# EAGLE library part CN1J8TTE471J (library C3-KOA)
8 position 470 Ohm 0.8mm pitch SMT resistor array
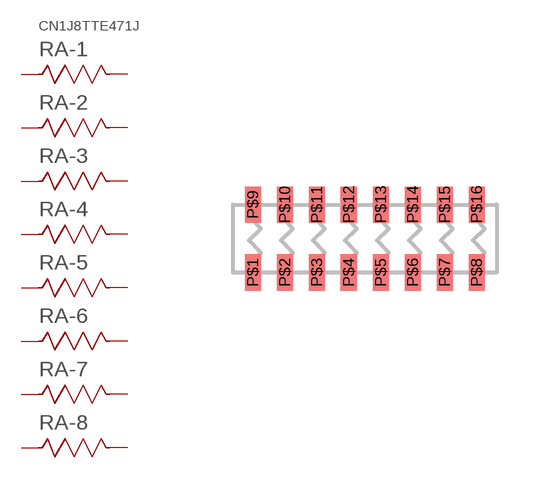
[diagram p0: symbol with the pads of 1J8; footprint 1J8]

Designator prefix RA; gates -1=RA -2=RN -3=RN -4=RN -5=RN -6=RN -7=RN -8=RN

## CN1J8TTE471J (VALUE: 470)  [1J8]
P$1  -1:1  pas
P$2  -2:1  pas
P$3  -3:1  pas
P$4  -4:1  pas
P$5  -5:1  pas
P$6  -6:1  pas
P$7  -7:1  pas
P$8  -8:1  pas
P$9  -1:2  pas
P$10  -2:2  pas
P$11  -3:2  pas
P$12  -4:2  pas
P$13  -5:2  pas
P$14  -6:2  pas
P$15  -7:2  pas
P$16  -8:2  pas

## Footprint 1J8 (pad centres in mm)
8 position resistor array
smd 0.4 x 0.9: P$1 0,0; P$2 0.8,0; P$3 1.6,0; P$4 2.4,0; P$5 3.2,0; P$6 4,0; P$7 4.8,0; P$8 5.6,0; P$9 0,1.7; P$10 0.8,1.7; P$11 1.6,1.7; P$12 2.4,1.7; P$13 3.2,1.7; P$14 4,1.7; P$15 4.8,1.7; P$16 5.6,1.7